# EAGLE library part SOIC127P600X175-8N (library MIC3203)
MIC3203/MIC3203-1 High Brightness LED Driver controller with High-Side current sense Designed by AKstudios github.com/akstudios
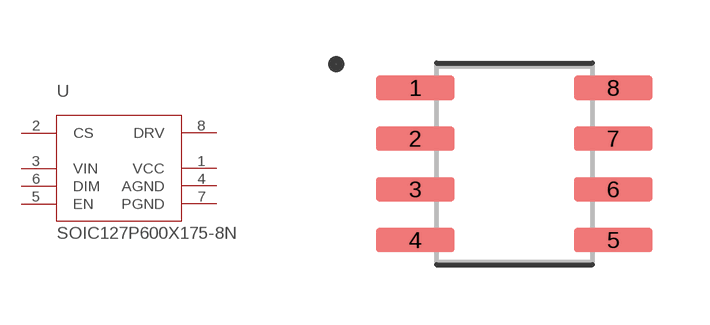
[diagram p0: symbol with the pads of SOIC127P600X175-8N; footprint SOIC127P600X175-8N]

Designator prefix U

## SOIC127P600X175-8N  [SOIC127P600X175-8N]
1  VCC
2  CS
3  VIN
4  AGND
5  EN
6  DIM
7  PGND
8  DRV

## Footprint SOIC127P600X175-8N (pad centres in mm)
smd 1.97 x 0.6: 1 -2.475,1.905; 2 -2.475,0.635; 3 -2.475,-0.635; 4 -2.475,-1.905; 5 2.475,-1.905; 6 2.475,-0.635; 7 2.475,0.635; 8 2.475,1.905